# Altium schematic symbol library 12061A121JAT2A.SchLib: 1 symbol
Pins are listed as number, name and electrical type; pins without a type are passive.

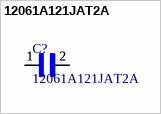
[diagram p0: symbol 12061A121JAT2A]

## 12061A121JAT2A
designator C?
CERAMIC CAPACITOR 120PF 100V, C0G, 5%, 1206; MF: {'manufacturer': u'AVX'}; Value: *; Package: None; MP: 12061A121JAT2A; Price: None; Availability: Unavailable
footprint CAPC3216X94N
pins: 1, 1, 2, 2